# Altium schematic symbol library MINI-STM32.SCHLIB: 31 symbols
Pins are listed as number, name and electrical type; pins without a type are passive.

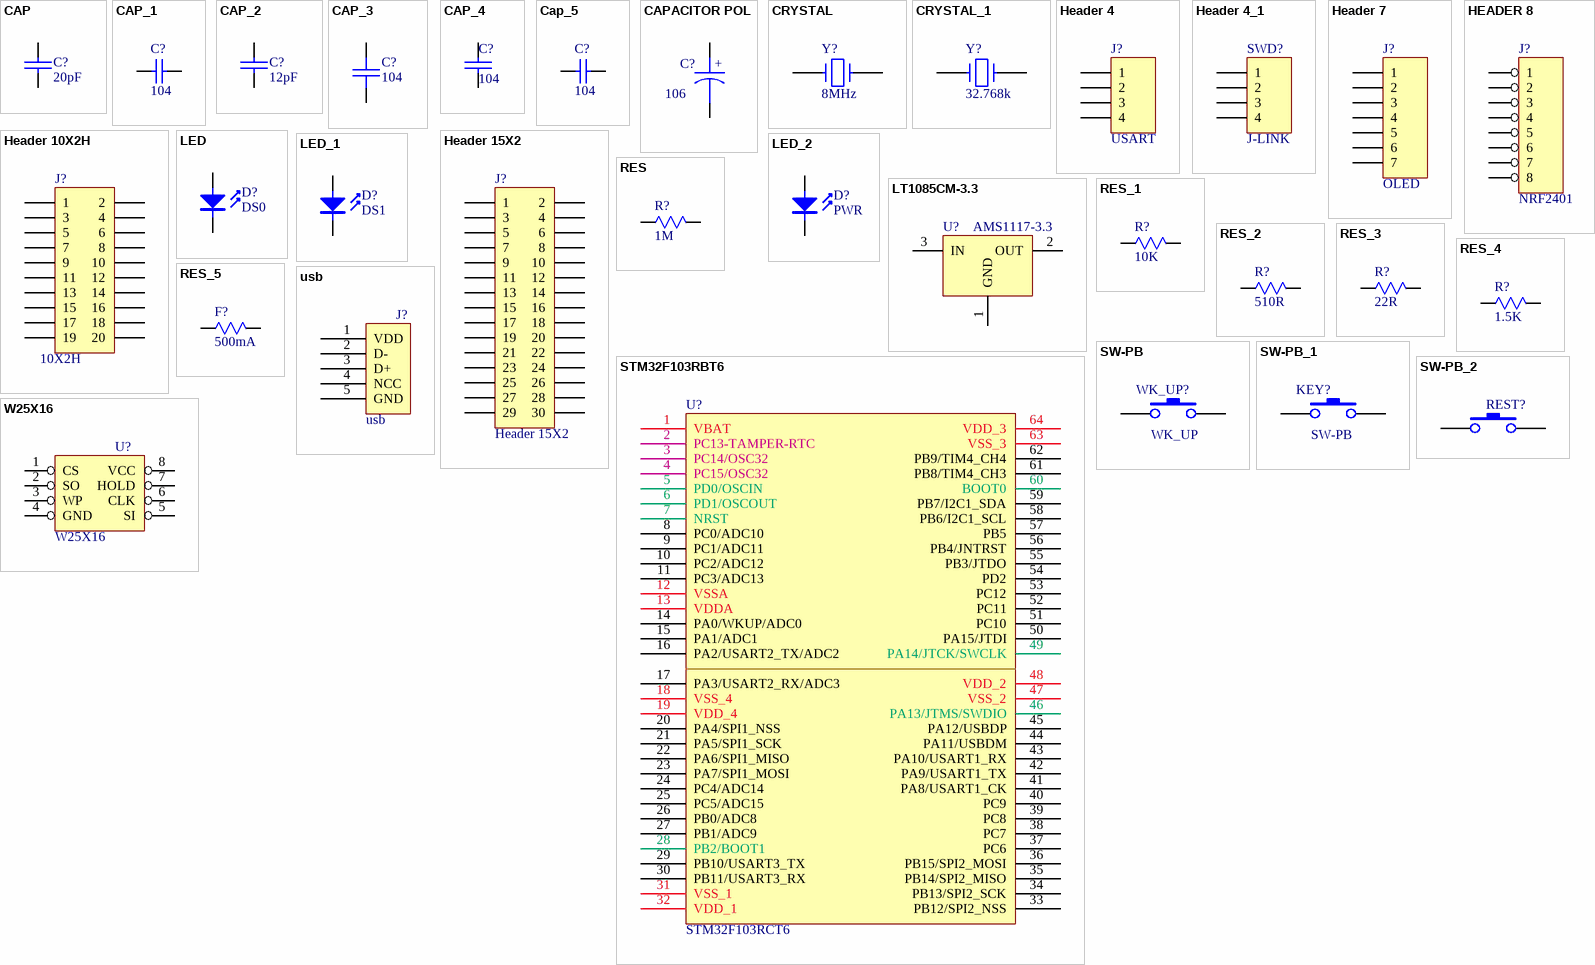
[diagram p0: symbols CAP to W25X16]

## CAP
designator C?, comment 20pF
CAP CHIP 20P 50V(+-5% C0G 0603); Value: 20pF
footprint 0603 (Footprint not found)
footprint 0603P
footprint 0603J
pins: 1, 2
2 alternate drawings of the same symbol

## CAP_1
designator C?, comment 104
GRM39 X7R102K50PT; Value: 100pF; Published: 8-Jun-2000; Revision: July-2002: Re-released for DXP Platform.; Publisher: Altium Limited; REF: GRM39 X7R102K50PT
footprint RAD-0.3 (Capacitor; 2 Leads)
simulation model CAP (Capacitor)
signal-integrity model Cap
footprint CAPR5.08-7.8X3.2
footprint CAPR2.54-5.1X3.2
footprint 0603
footprint 0603C (for capicty only)
pins: 1, 2

## CAP_2
designator C?, comment 12pF
CAP CHIP 20P 50V(+-5% C0G 0603); Value: 20pF
footprint 0603 (Footprint not found)
footprint 0603P
footprint 0603J
pins: 1, 2
2 alternate drawings of the same symbol

## CAP_3
designator C?, comment 104
footprint C0603
footprint C0805
footprint 0603
footprint 0603J
pins: 1, 2
2 alternate drawings of the same symbol

## CAP_4
designator C?, comment 104
Capacitor
footprint 0603J
pins: 1, 2
2 alternate drawings of the same symbol

## Cap_5
designator C?, comment 104
Capacitor; Published: 8-Jun-2000; LatestRevisionDate: 17-Jul-2002; LatestRevisionNote: Re-released for DXP Platform.; PackageReference: RAD-0.3; Publisher: Altium Limited
footprint 0603J
pins: 1, 2
2 alternate drawings of the same symbol

## CAPACITOR POL
designator C?, comment 106
Capacitor
footprint TAC_3216
pins: 1, 2
text: +

## CRYSTAL
designator Y?, comment 8MHz
Crystal 8MHz PLUG; Value: 8MHz
footprint CR0.2 (Footprint not found)
footprint XTAL-STM (Footprint not found)
footprint HC49/4H_SMX (Quartz Crystal, SM; Body 13.4 (inc. leads) x 4.9 mm (LxW max))
footprint smt-xtal
pins: 1, 2
2 alternate drawings of the same symbol

## CRYSTAL_1
designator Y?, comment 32.768k
Crystal 8MHz PLUG; Value: 8MHz
footprint CR0.2 (Footprint not found)
footprint XTAL-STM
footprint 32.768k
pins: 1, 2
2 alternate drawings of the same symbol

## Header 4
designator J?, comment USART
Header, 4-Pin; LatestRevisionDate: 17-Jul-2002; LatestRevisionNote: Re-released for DXP Platform.; Publisher: Altium Limited
footprint HDR1X4 (Connector; Header; 4 Position)
signal-integrity model Connector
pins: 1, 2, 3, 4

## Header 4_1
designator SWD?, comment J-LINK
Header, 4-Pin; LatestRevisionDate: 17-Jul-2002; LatestRevisionNote: Re-released for DXP Platform.; Publisher: Altium Limited
footprint HDR1X4 (Connector; Header; 4 Position)
signal-integrity model Connector
pins: 1, 2, 3, 4

## Header 7
designator J?, comment OLED
Header, 7-Pin; LatestRevisionDate: 17-Jul-2002; LatestRevisionNote: Re-released for DXP Platform.; Publisher: Altium Limited
footprint HDR1X7 (Connector; Header; 7 Position)
signal-integrity model Connector
pins: 1, 2, 3, 4, 5, 6, 7

## HEADER 8
designator J?, comment NRF2401
8 Pin Header
footprint HDR2X4 (Connector; Header; 4x2 Position)
pins: 1, 2, 3, 4, 5, 6, 7, 8

## Header 10X2H
designator J?, comment 10X2H
Header, 10-Pin, Dual row, Right Angle; LatestRevisionDate: 17-Jul-2002; LatestRevisionNote: Re-released for DXP Platform.; Publisher: Altium Limited
footprint HDR2X10H (Connector; Header; 10x2 Position; Right Angle)
signal-integrity model Connector
footprint HDR2X10 (Connector; Header; 10x2 Position)
footprint IDC20
pins: 1, 2, 3, 4, 5, 6, 7, 8, 9, 10, 11, 12, 13, 14, 15, 16, 17, 18, 19, 20

## Header 15X2
designator J?
Header, 15-Pin, Dual row; LatestRevisionDate: 17-Jul-2002; LatestRevisionNote: Re-released for DXP Platform.; Publisher: Altium Limited
footprint IDE15X2_2.54
signal-integrity model Connector
pins: 1, 2, 3, 4, 5, 6, 7, 8, 9, 10, 11, 12, 13, 14, 15, 16, 17, 18, 19, 20, 21, 22, 23, 24, 25, 26, 27, 28, 29, 30

## LED
designator D?, comment DS0
footprint LED_0603(B)
pins: 1, 2
2 alternate drawings of the same symbol

## LED_1
designator D?, comment DS1
footprint LED_0603(B)
pins: 1, 2
2 alternate drawings of the same symbol

## LED_2
designator D?, comment PWR
footprint LED_0603(B)
pins: 1, 2
2 alternate drawings of the same symbol

## LT1085CM-3.3
designator U?, comment AMS1117-3.3
footprint SOT223 (SOT-223/SC-73; 4 Leads; Body 6.7 x 7.3 mm, inc. leads (LxW max))
pins: 1 GND, 2 OUT, 3 IN

## RES
designator R?, comment 1M
footprint 0603J
footprint R0805
footprint R2W/P20/H1
pins: 1, 2
2 alternate drawings of the same symbol

## RES_1
designator R?, comment 10K
footprint R0603
footprint R0805
footprint R2W/P20/H1
footprint 0603
footprint 0603J
pins: 1, 2
2 alternate drawings of the same symbol

## RES_2
designator R?, comment 510R
footprint R0603
footprint R0805
footprint R2W/P20/H1
footprint 0603
footprint 0603J
pins: 1, 2
2 alternate drawings of the same symbol

## RES_3
designator R?, comment 22R
footprint R0603
footprint R0805
footprint R2W/P20/H1
footprint 0603
footprint 0603J
pins: 1, 2
2 alternate drawings of the same symbol

## RES_4
designator R?, comment 1.5K
footprint R0603
footprint R0805
footprint R2W/P20/H1
footprint 0603
footprint 0603J
pins: 1, 2
2 alternate drawings of the same symbol

## RES_5
designator F?, comment 500mA
footprint R0603
footprint C0805
footprint R2W/P20/H1
footprint 0603
footprint Model Name (Footprint not found)
footprint 1210C
footprint C0805
footprint RC0805
pins: 1, 2
2 alternate drawings of the same symbol

## STM32F103RBT6
designator U?, comment STM32F103RCT6
footprint LQFP64
pins: 1 VBAT, 2 PC13-TAMPER-RTC, 3 PC14/OSC32, 4 PC15/OSC32, 5 PD0/OSCIN, 6 PD1/OSCOUT, 7 NRST, 8 PC0/ADC10, 9 PC1/ADC11, 10 PC2/ADC12, 11 PC3/ADC13, 12 VSSA, 13 VDDA, 14 PA0/WKUP/ADC0, 15 PA1/ADC1, 16 PA2/USART2_TX/ADC2, 17 PA3/USART2_RX/ADC3, 18 VSS_4, 19 VDD_4, 20 PA4/SPI1_NSS, 21 PA5/SPI1_SCK, 22 PA6/SPI1_MISO, 23 PA7/SPI1_MOSI, 24 PC4/ADC14, 25 PC5/ADC15, 26 PB0/ADC8, 27 PB1/ADC9, 28 PB2/BOOT1, 29 PB10/USART3_TX, 30 PB11/USART3_RX, 31 VSS_1, 32 VDD_1, 33 PB12/SPI2_NSS, 34 PB13/SPI2_SCK, 35 PB14/SPI2_MISO, 36 PB15/SPI2_MOSI, 37 PC6, 38 PC7, 39 PC8, 40 PC9, 41 PA8/USART1_CK, 42 PA9/USART1_TX, 43 PA10/USART1_RX, 44 PA11/USBDM, 45 PA12/USBDP, 46 PA13/JTMS/SWDIO, 47 VSS_2, 48 VDD_2, 49 PA14/JTCK/SWCLK, 50 PA15/JTDI, 51 PC10, 52 PC11, 53 PC12, 54 PD2, 55 PB3/JTDO, 56 PB4/JNTRST, 57 PB5, 58 PB6/I2C1_SCL, 59 PB7/I2C1_SDA, 60 BOOT0, 61 PB8/TIM4_CH3, 62 PB9/TIM4_CH4, 63 VSS_3, 64 VDD_3

## SW-PB
designator WK_UP?, comment WK_UP
footprint micro button_2_SMD
pins: 1, 2

## SW-PB_1
designator KEY?, comment SW-PB
footprint micro button_2_SMD
pins: 1, 2

## SW-PB_2
designator REST?
footprint micro button_2_SMD
pins: 1, 2

## usb
designator J?
footprint MINIUSB
footprint MINUSB
footprint mini_USB
pins: 1 VDD, 2 D-, 3 D+, 4 NCC, 5 GND

## W25X16
designator U?
footprint SOP8
footprint Model Name (Footprint not found)
footprint SOIC8P
pins: 1 CS, 2 SO, 3 WP, 4 GND, 5 SI, 6 CLK, 7 HOLD, 8 VCC